# EAGLE library part CC2591 (library bbb-cc2520)
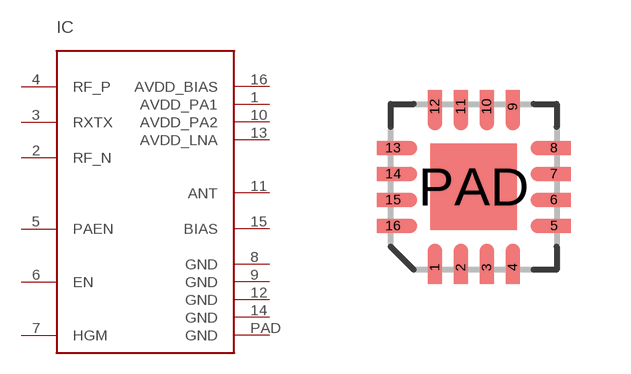
[diagram p3: symbol with the pads of PVQFN-16; footprint PVQFN-16]

Designator prefix IC

## CC2591  [PVQFN-16]
1  AVDD_PA1
2  RF_N
3  RXTX
4  RF_P
5  PAEN
6  EN
7  HGM
8  GND
9  GND
10  AVDD_PA2
11  ANT
12  GND
13  AVDD_LNA
14  GND
15  BIAS
16  AVDD_BIAS
PAD  GND

## Footprint PVQFN-16 (pad centres in mm)
smd 0.35 x 0.825: 1 -0.975,-2.013; 2 -0.325,-2.013; 3 0.325,-2.013; 4 0.975,-2.013; 9 0.975,2.013; 10 0.325,2.013; 11 -0.325,2.013; 12 -0.975,2.013
smd 0.825 x 0.35: 5 2.013,-0.975; 6 2.013,-0.325; 7 2.013,0.325; 8 2.013,0.975; 13 -2.013,0.975; 14 -2.013,0.325; 15 -2.013,-0.325; 16 -2.013,-0.975
smd 2.16 x 2.16: PAD 0,0